# Altium footprint library SHEET06.PcbLib: 64 footprints (part 1 of 4)
Each footprint in its own frame and in the unit in brackets; x right, y up, seen from the top. Pads: shape width x height; smd on the part's side, far side on the other; paste and mask are expansions set on the pad; w line width, h text height; cw(c..) or ccw(c..) is an arc to the next point about the centre after c.
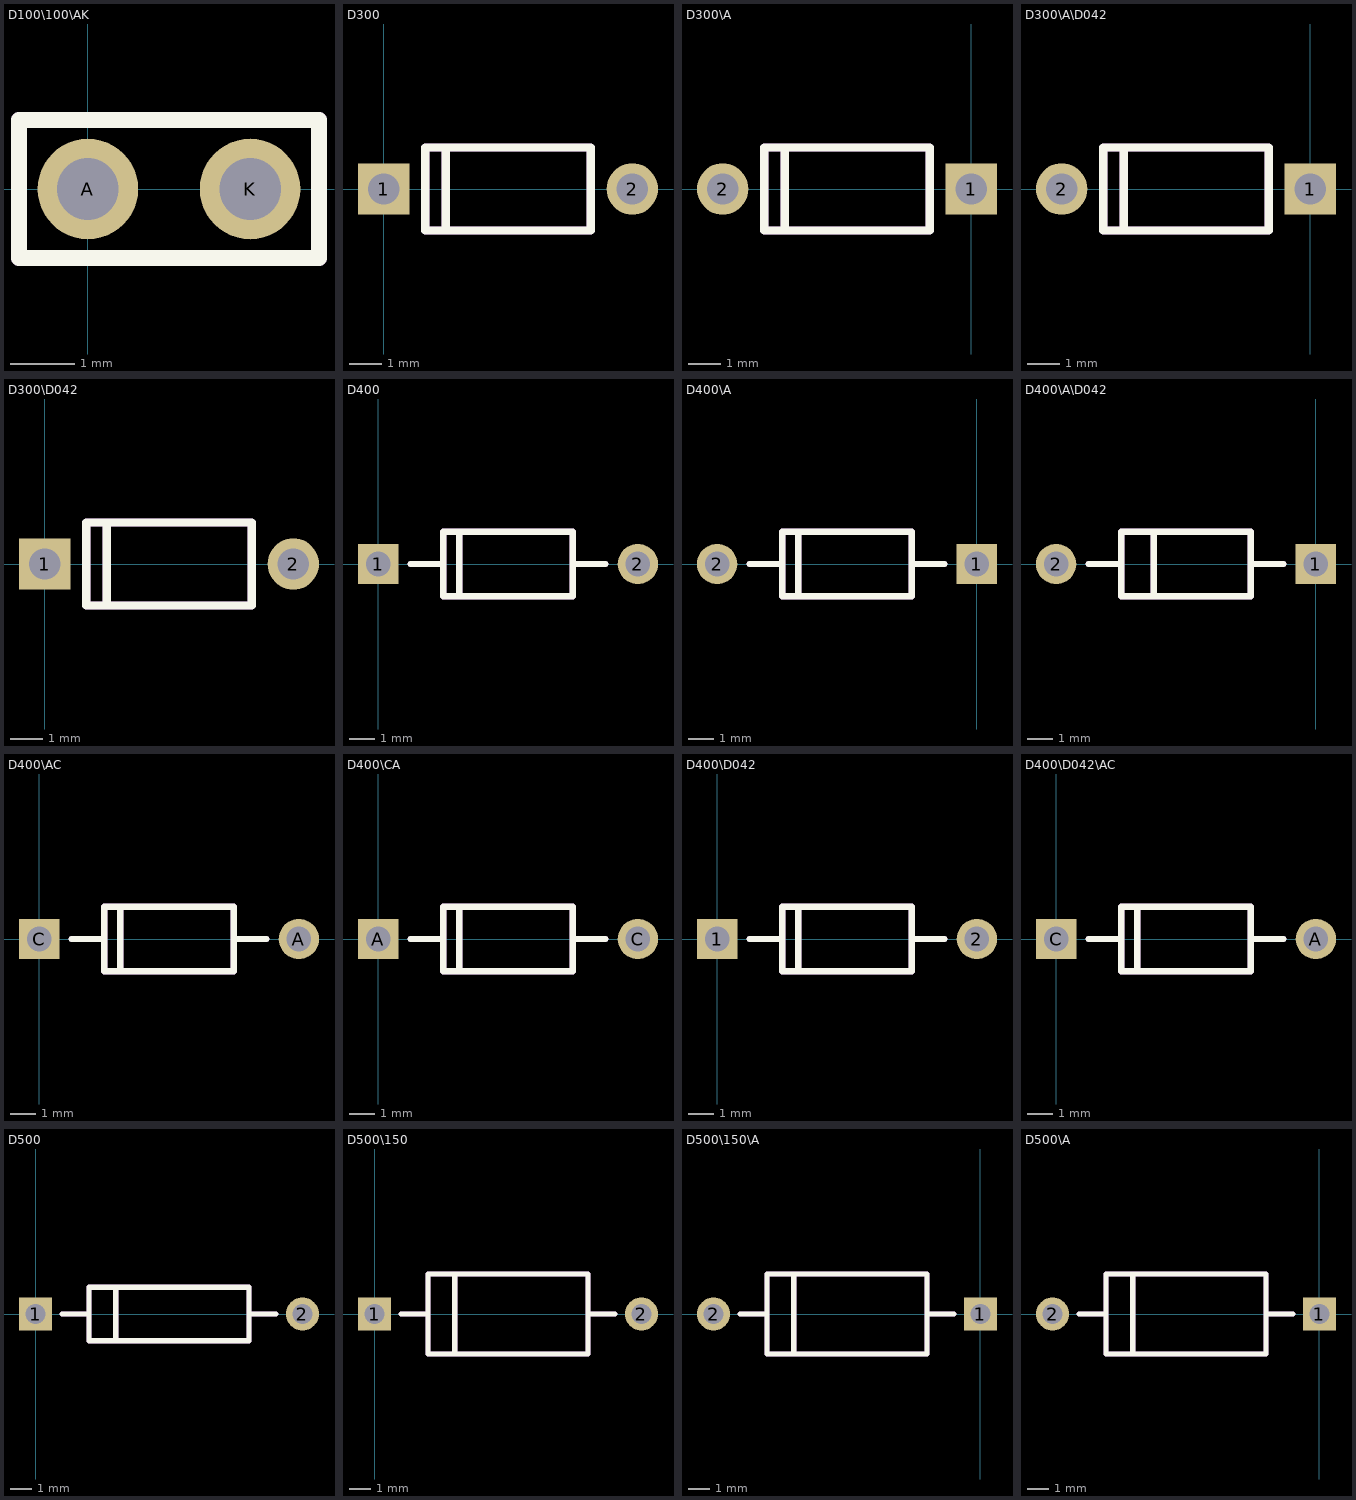
[diagram p0: the footprints below, top view; thin cyan lines are the x and y axes]

## D100\100\AK [mil]
pads (2):
  round 62 hole 38: A(0,0) K(100,0)
Top Overlay:
  lines w10: -42.5,-42.5 -42.5,42.5 142.5,42.5 142.5,-42.5 -42.5,-42.5
  text ".Designator" at -25,200 h60
Mechanical 1:
  lines w10: -42.5,-42.5 -42.5,42.5 142.5,42.5 142.5,-42.5 -42.5,-42.5
  text ".Designator" at -25,200 h60
  text ".Pattern" at -100,-200 h60

## D300 [mil]
pads (2):
  rect 62x62 / inner round 62 / far side round 62 hole 38: 1(0,0)
  round 62 hole 38: 2(300,0)
Top Overlay:
  lines w10: 75,-50 75,50 ; 50,-50 50,50 250,50 250,-50 50,-50
  text ".Designator" at -375,75 h60
Mechanical 1:
  lines w10: 75,-50 75,50 ; 50,-50 50,50 250,50 250,-50 50,-50
  text ".Designator" at -375,75 h60
  text ".Pattern" at 0,-200 h60

## D300\A [mil]
pads (2):
  rect 62x62 / inner round 62 / far side round 62 hole 38: 1(0,0)
  round 62 hole 38: 2(-300,0)
Top Overlay:
  lines w10: -225,-50 -225,50 ; -250,-50 -50,-50 -50,50 -250,50 -250,-50
  text ".Designator" at 150,150 h60
Mechanical 1:
  lines w10: -225,-50 -225,50 ; -250,-50 -50,-50 -50,50 -250,50 -250,-50
  text ".Designator" at 175,-50 h60
  text ".Pattern" at -300,-200 h60

## D300\A\D042 [mil]
pads (2):
  rect 62x62 / inner round 62 / far side round 62 hole 38: 1(0,0)
  round 62 hole 38: 2(-300,0)
Top Overlay:
  lines w10: -225,-50 -225,50 ; -250,-50 -250,50 -50,50 -50,-50 -250,-50
  text ".Designator" at -450,150 h60
Mechanical 1:
  lines w10: -225,-50 -225,50 ; -250,-50 -250,50 -50,50 -50,-50 -250,-50
  text ".Designator" at -400,-50 h60
  text ".Pattern" at -300,-200 h60

## D300\D042 [mil]
pads (2):
  rect 62x62 / inner round 62 / far side round 62 hole 38: 1(0,0)
  round 62 hole 38: 2(300,0)
Top Overlay:
  lines w10: 75,-50 75,50 ; 50,-50 50,50 250,50 250,-50 50,-50
  text ".Designator" at 125,75 h60
Mechanical 1:
  lines w10: 75,-50 75,50 ; 50,-50 50,50 250,50 250,-50 50,-50
  text ".Designator" at 175,-50 h60
  text ".Pattern" at 0,-200 h60

## D400 [mil]
pads (2):
  rect 62x62 / inner round 62 / far side round 62 hole 38: 1(0,0)
  round 62 hole 38: 2(400,0)
Top Overlay:
  lines w10: 50,0 100,0 ; 125,-50 125,50 ; 300,0 350,0 ; 100,-50 300,-50 300,50 100,50 100,-50
  text ".Designator" at -75,125 h60
Mechanical 1:
  lines w10: 50,0 100,0 ; 125,-50 125,50 ; 300,0 350,0 ; 100,-50 300,-50 300,50 100,50 100,-50
  text ".Designator" at -75,125 h60
  text ".Pattern" at 75,-175 h60

## D400\A [mil]
pads (2):
  rect 62x62 / inner round 62 / far side round 62 hole 38: 1(0,0)
  round 62 hole 38: 2(-400,0)
Top Overlay:
  lines w10: -350,0 -300,0 ; -275,-50 -275,50 ; -100,0 -50,0 ; -300,-50 -300,50 -100,50 -100,-50 -300,-50
  text ".Designator" at -75,325 h60
Mechanical 1:
  lines w10: -350,0 -300,0 ; -275,-50 -275,50 ; -100,0 -50,0 ; -300,-50 -300,50 -100,50 -100,-50 -300,-50
  text ".Designator" at -75,325 h60
  text ".Pattern" at -400,-200 h60

## D400\A\D042 [mil]
pads (2):
  rect 62x62 / inner round 62 / far side round 62 hole 38: 1(0,0)
  round 62 hole 38: 2(-400,0)
Top Overlay:
  lines w10: -350,0 -300,0 ; -250,-50 -250,50 ; -100,0 -50,0 ; -300,-50 -100,-50 -100,50 -300,50 -300,-50
  text ".Designator" at -100,350 h60
Mechanical 1:
  lines w10: -350,0 -300,0 ; -250,-50 -250,50 ; -100,0 -50,0 ; -300,-50 -100,-50 -100,50 -300,50 -300,-50
  text ".Designator" at -100,350 h60
  text ".Pattern" at -400,-200 h60

## D400\AC [mil]
pads (2):
  round 62 hole 38: A(400,0)
  rect 62x62 / inner round 62 / far side round 62 hole 38: C(0,0)
Top Overlay:
  lines w10: 50,0 100,0 ; 125,-50 125,50 ; 300,0 350,0 ; 100,-50 300,-50 300,50 100,50 100,-50
  text ".Designator" at -75,525 h60
Mechanical 1:
  lines w10: 50,0 100,0 ; 125,-50 125,50 ; 300,0 350,0 ; 100,-50 300,-50 300,50 100,50 100,-50
  text ".Designator" at -75,525 h60
  text ".Pattern" at 0,-200 h60

## D400\CA [mil]
pads (2):
  rect 62x62 / inner round 62 / far side round 62 hole 38: A(0,0)
  round 62 hole 38: C(400,0)
Top Overlay:
  lines w10: 50,0 100,0 ; 125,-50 125,50 ; 300,0 350,0 ; 100,-50 100,50 300,50 300,-50 100,-50
  text ".Designator" at -200,350 h60
Mechanical 1:
  lines w10: 50,0 100,0 ; 125,-50 125,50 ; 300,0 350,0 ; 100,-50 100,50 300,50 300,-50 100,-50
  text ".Designator" at -200,350 h60
  text ".Pattern" at 0,-200 h60

## D400\D042 [mil]
pads (2):
  rect 62x62 / inner round 62 / far side round 62 hole 38: 1(0,0)
  round 62 hole 38: 2(400,0)
Top Overlay:
  lines w10: 50,0 100,0 ; 125,-50 125,50 ; 300,0 350,0 ; 100,-50 300,-50 300,50 100,50 100,-50
  text ".Designator" at -150,75 h60
Mechanical 1:
  lines w10: 50,0 100,0 ; 125,-50 125,50 ; 300,0 350,0 ; 100,-50 300,-50 300,50 100,50 100,-50
  text ".Designator" at -150,75 h60
  text ".Pattern" at 0,-200 h60

## D400\D042\AC [mil]
pads (2):
  round 62 hole 38: A(400,0)
  rect 62x62 / inner round 62 / far side round 62 hole 38: C(0,0)
Top Overlay:
  lines w10: 50,0 100,0 ; 125,-50 125,50 ; 300,0 350,0 ; 100,-50 300,-50 300,50 100,50 100,-50
  text ".Designator" at -175,125 h60
Mechanical 1:
  lines w10: 50,0 100,0 ; 125,-50 125,50 ; 300,0 350,0 ; 100,-50 100,50 300,50 300,-50 100,-50
  text ".Designator" at -175,125 h60
  text ".Pattern" at 0,-200 h60

## D500 [mil]
pads (2):
  rect 62x62 / inner round 62 / far side round 62 hole 38: 1(0,0)
  round 62 hole 38: 2(500,0)
Top Overlay:
  lines w10: 50,0 100,0 ; 150,-50 150,50 ; 400,0 450,0 ; 100,-50 400,-50 400,50 100,50 100,-50
  text ".Designator" at 25,400 h60
Mechanical 1:
  lines w10: 50,0 100,0 ; 150,-50 150,50 ; 400,0 450,0 ; 100,-50 400,-50 400,50 100,50 100,-50
  text ".Designator" at 0,100 h60
  text ".Pattern" at 100,-175 h60

## D500\150 [mil]
pads (2):
  rect 62x62 / inner round 62 / far side round 62 hole 38: 1(0,0)
  round 62 hole 38: 2(500,0)
Top Overlay:
  lines w10: 50,0 100,0 ; 150,-75 150,75 ; 400,0 450,0 ; 100,-75 100,75 400,75 400,-75 100,-75
  text ".Designator" at 0,150 h60
Mechanical 1:
  lines w10: 50,0 100,0 ; 150,-75 150,75 ; 400,0 450,0 ; 100,-75 100,75 400,75 400,-75 100,-75
  text ".Designator" at 0,150 h60
  text ".Pattern" at 0,-200 h60

## D500\150\A [mil]
pads (2):
  rect 62x62 / inner round 62 / far side round 62 hole 38: 1(0,0)
  round 62 hole 38: 2(-500,0)
Top Overlay:
  lines w10: -450,0 -400,0 ; -350,-75 -350,75 ; -100,0 -50,0 ; -400,-75 -100,-75 -100,75 -400,75 -400,-75
  text ".Designator" at 100,175 h60
Mechanical 1:
  lines w10: -450,0 -400,0 ; -350,-75 -350,75 ; -100,0 -50,0 ; -400,-75 -400,75 -100,75 -100,-75 -400,-75
  text ".Designator" at 125,-50 h60
  text ".Pattern" at -500,-200 h60

## D500\A [mil]
pads (2):
  rect 62x62 / inner round 62 / far side round 62 hole 38: 1(0,0)
  round 62 hole 38: 2(-500,0)
Top Overlay:
  lines w10: -450,0 -400,0 ; -350,-75 -350,75 ; -100,0 -50,0 ; -400,-75 -400,75 -100,75 -100,-75 -400,-75
  text ".Designator" at 125,425 h60
Mechanical 1:
  lines w10: -450,0 -400,0 ; -350,-75 -350,75 ; -100,0 -50,0 ; -400,-75 -400,75 -100,75 -100,-75 -400,-75
  text ".Designator" at 35,120 h60
  text ".Pattern" at -400,-200 h60